# EAGLE library part TPS26600PWPR (library TPS26600PWPR)
Check availability <https://pricing.snapeda.com/parts/TPS26600PWPR/Texas%20Instruments/view-part?ref=eda>
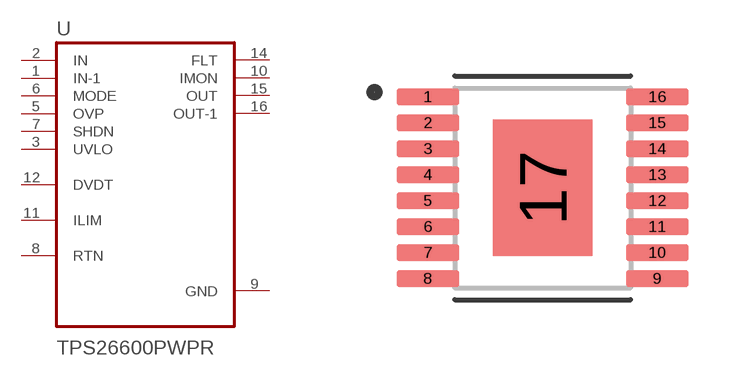
[diagram p0: symbol with the pads of SOP65P640X120-17N; footprint SOP65P640X120-17N]

Designator prefix U

## TPS26600PWPR (Availability: In Stock; Check_prices: https://www.snapeda.com/parts/TPS26600PWPR/Texas+Instruments/view-part/?ref=eda; Description: 4.2-V to 60-V, 150m&Omega;, 0.1-2.23A eFuse with integrated input reverse polarity protection; MF: Texas Instruments; MP: TPS26600PWPR; Package: HTSSOP-16 Texas Instruments; Price: None; Purchase-URL: https://www.snapeda.com/api/url_track_click_mouser/?unipart_id=885900&manufacturer=Texas Instruments&part_name=TPS26600PWPR&search_term=tps26600; SnapEDA_Link: https://www.snapeda.com/parts/TPS26600PWPR/Texas+Instruments/view-part/?ref=snap)  [SOP65P640X120-17N]
1  IN-1  in
2  IN  in
3  UVLO  in
5  OVP  in
6  MODE  in
7  SHDN  in
8  RTN
9  GND  pwr
10  IMON  out
11  ILIM
12  DVDT
14  FLT  out
15  OUT  out
16  OUT-1  out

## Footprint SOP65P640X120-17N (pad centres in mm)
smd 1.57 x 0.41: 1 -2.87,2.275; 2 -2.87,1.625; 3 -2.87,0.975; 4 -2.87,0.325; 5 -2.87,-0.325; 6 -2.87,-0.975; 7 -2.87,-1.625; 8 -2.87,-2.275; 9 2.87,-2.275; 10 2.87,-1.625; 11 2.87,-0.975; 12 2.87,-0.325; 13 2.87,0.325; 14 2.87,0.975; 15 2.87,1.625; 16 2.87,2.275
smd 2.48 x 3.4: 17 0,0